# EAGLE library part USB2244I (library microchip)
IC USB FLASH MEDIA CTRLR
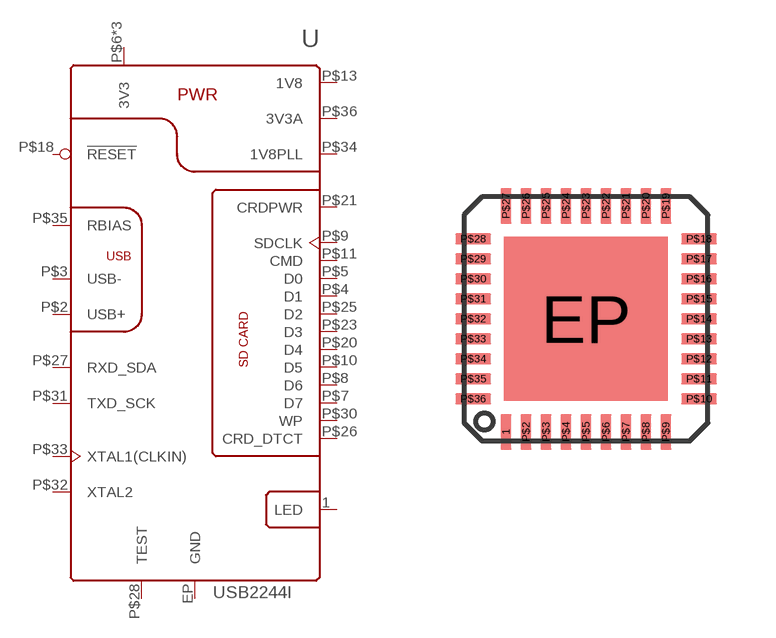
[diagram p8: symbol with the pads of VFQFN-EP-36; footprint VFQFN-EP-36]

Designator prefix U

## USB2244IAEZG (DIGIKEY: USB2244I-AEZG-06-CT-ND; MFR: MICROCHIP; MPN: USB2244I-AEZG-06-TR; P1I: o)  [VFQFN-EP-36]
1  LED
EP  GND
P$2  USB+
P$3  USB-
P$4  D1
P$5  D0
P$6  3V3  pwr
P$7  D7
P$8  D6
P$9  SDCLK
P$10  D5
P$11  CMD
P$13  1V8
P$14  3V3  pwr
P$18  !RESET
P$20  D4
P$21  CRDPWR
P$22  3V3  pwr
P$23  D3
P$25  D2
P$26  CRD_DTCT
P$27  RXD_SDA
P$28  TEST
P$30  WP
P$31  TXD_SCK
P$32  XTAL2
P$33  XTAL1(CLKIN)
P$34  1V8PLL
P$35  RBIAS
P$36  3V3A

## Footprint VFQFN-EP-36 (pad centres in mm)
smd 0.28 x 0.9: 1 -2,-2.825; P$2 -1.5,-2.825; P$3 -1,-2.825; P$4 -0.5,-2.825; P$5 0,-2.825; P$6 0.5,-2.825; P$7 1,-2.825; P$8 1.5,-2.825; P$9 2,-2.825; P$19 2,2.825; P$20 1.5,2.825; P$21 1,2.825; P$22 0.5,2.825; P$23 0,2.825; P$24 -0.5,2.825; P$25 -1,2.825; P$26 -1.5,2.825; P$27 -2,2.825
smd 4.1 x 4.1: EP 0,0
smd 0.9 x 0.28: P$10 2.825,-2; P$11 2.825,-1.5; P$12 2.825,-1; P$13 2.825,-0.5; P$14 2.825,0; P$15 2.825,0.5; P$16 2.825,1; P$17 2.825,1.5; P$18 2.825,2; P$28 -2.825,2; P$29 -2.825,1.5; P$30 -2.825,1; P$31 -2.825,0.5; P$32 -2.825,0; P$33 -2.825,-0.5; P$34 -2.825,-1; P$35 -2.825,-1.5; P$36 -2.825,-2